# Altium schematic symbol library 88E1111-BAB.SchLib: 1 symbol
Pins are listed as number, name and electrical type; pins without a type are passive.

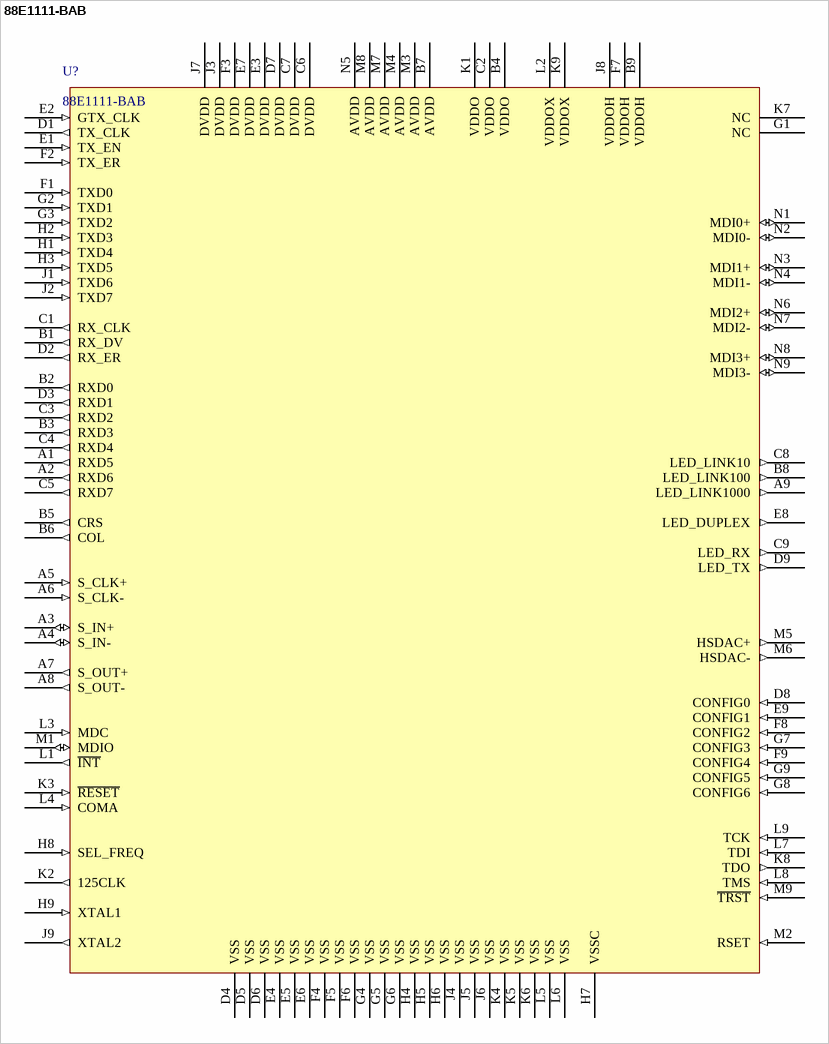
[diagram p0: symbol 88E1111-BAB]

## 88E1111-BAB
designator U?
signal-integrity model Model Name (Model Description)
pins: A1 RXD5 (out), A2 RXD6 (out), A3 S_IN+ (io), A4 S_IN- (io), A5 S_CLK+ (in), A6 S_CLK- (in), A7 S_OUT+ (out), A8 S_OUT- (out), A9 LED_LINK1000 (out), B1 RX_DV (out), B2 RXD0 (out), B3 RXD3 (out), B4 VDDO (power), B5 CRS (out), B6 COL (out), B7 AVDD (power), B8 LED_LINK100 (out), B9 VDDOH (power), C1 RX_CLK (out), C2 VDDO (power), C3 RXD2 (out), C4 RXD4 (out), C5 RXD7 (out), C6 DVDD (power), C7 DVDD (power), C8 LED_LINK10 (out), C9 LED_RX (out), D1 TX_CLK (out), D2 RX_ER (out), D3 RXD1 (out), D4 VSS (power), D5 VSS (power), D6 VSS (power), D7 DVDD (power), D8 CONFIG0 (in), D9 LED_TX (out), E1 TX_EN (in), E2 GTX_CLK (in), E3 DVDD (power), E4 VSS (power), E5 VSS (power), E6 VSS (power), E7 DVDD (power), E8 LED_DUPLEX (out), E9 CONFIG1 (in), F1 TXD0 (in), F2 TX_ER (in), F3 DVDD (power), F4 VSS (power), F5 VSS (power), F6 VSS (power), F7 VDDOH (power), F8 CONFIG2 (in), F9 CONFIG4 (in), G1 NC, G2 TXD1 (in), G3 TXD2 (in), G4 VSS (power), G5 VSS (power), G6 VSS (power), G7 CONFIG3 (in), G8 CONFIG6 (in), G9 CONFIG5 (in), H1 TXD4 (in), H2 TXD3 (in), H3 TXD5 (in), H4 VSS (power), H5 VSS (power), H6 VSS (power), H7 VSSC (power), H8 SEL_FREQ (in), H9 XTAL1 (in), J1 TXD6 (in), J2 TXD7 (in), J3 DVDD (power), J4 VSS (power), J5 VSS (power), J6 VSS (power), J7 DVDD (power), J8 VDDOH (power), J9 XTAL2 (out), K1 VDDO (power), K2 125CLK (out), K3 ~{RESET} (in), K4 VSS (power), K5 VSS (power), K6 VSS (power), K7 NC, K8 TDO (out), K9 VDDOX (power), L1 ~{INT} (out), L2 VDDOX (power), L3 MDC (in), L4 COMA (in), L5 VSS (power), L6 VSS (power), L7 TDI (in), L8 TMS (in), L9 TCK (in), M1 MDIO (io), M2 RSET (in), M3 AVDD (power), M4 AVDD (power), M5 HSDAC+ (out), M6 HSDAC- (out), M7 AVDD (power), M8 AVDD (power), M9 ~{TRST} (in), N1 MDI0+ (io), N2 MDI0- (io), N3 MDI1+ (io), N4 MDI1- (io), N5 AVDD (power), N6 MDI2+ (io), N7 MDI2- (io), N8 MDI3+ (io), N9 MDI3- (io)